# Altium footprint library Resistance.PcbLib: 5 footprints
Each footprint in its own frame and in the unit in brackets; x right, y up, seen from the top. Pads: shape width x height; smd on the part's side, far side on the other; paste and mask are expansions set on the pad; w line width, h text height; cw(c..) or ccw(c..) is an arc to the next point about the centre after c.
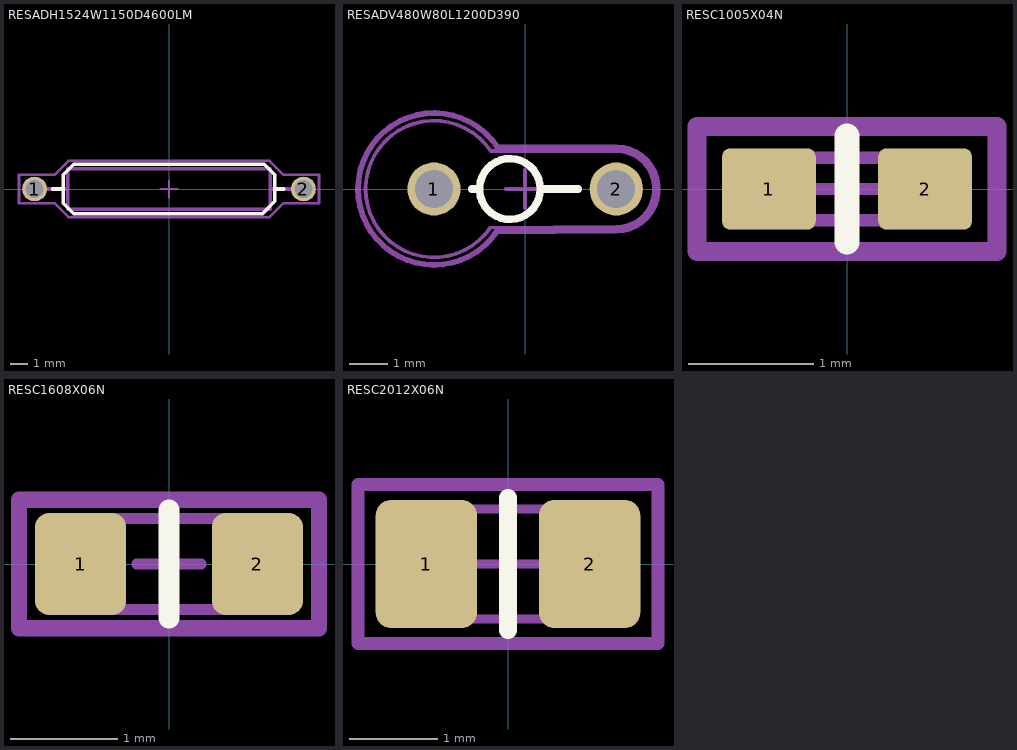
[diagram p0: the footprints below, top view; thin cyan lines are the x and y axes]

## RESADH1524W1150D4600LM [mm] "Wirebound Resistor pitch 15.24mm"
height 5.1
pads (2):
  round 1.4 hole 1: 1(-7.62,0) 2(7.62,0)
Top Overlay:
  lines w0.2: -6.6,0 -6,0 ; 6,0 6.5,0 ; -6,-0.8 -5.4,-1.4 5.3,-1.4 6,-0.7 6,0.8 5.4,1.4 -5.4,1.4 -6,0.8 -6,-0.8
Mechanical 13:
  lines w0.2: -7.6,0 -5.75,0 ; 5.77,0 7.62,0 ; -5.75,-1.15 5.75,-1.15 5.75,1.15 -5.75,1.15 -5.75,-1.15
Mechanical 15:
  lines w0.1: -0.5,0 0.5,0 ; 0,-0.5 0,0.5
  lines w0.15: -8.5,-0.8 -6.5,-0.8 -5.7,-1.6 5.7,-1.6 6.5,-0.8 8.5,-0.8 8.5,0.8 6.5,0.8 5.7,1.6 -5.7,1.6 -6.5,0.8 -8.5,0.8 -8.5,-0.8
Mechanical 17:
  text ".Designator" at -0.7,-0.3 h1
3D body "User Library-Half_watt_resistor_500spacing.step": height 4.18, standoff -5.2, extent -6.755,-1.875 6.695,1.875

## RESADV480W80L1200D390 [mm] "Wirebound Resistor pitch 4.8mm Radial tape"
height 12.5
pads (2):
  round 1.4 hole 1: 1(-2.4,0) 2(2.4,0)
Top Overlay:
  circle w0.2: c-0.4,0 r0.8
  lines w0.2: -1.4,0 -1.2,0 ; 0.4,0 1.4,0
Mechanical 13:
  lines w0.1: -0.917,-1.02 cw(c-2.4,0) -0.902,0.998 2.4,1 cw(c2.4,0) 2.4,-1 -0.917,-1.02
Mechanical 15:
  lines w0.1: -0.5,0 0.5,0 ; 0,-0.5 0,0.5
  lines w0.15: -0.752,-1.133 cw(c-2.4,0) -0.736,1.109 ; -0.752,-1.119 2.4,-1.101 ; -0.736,1.098 2.4,1.1 cw(c2.4,0) 2.4,-1.1
Mechanical 17:
  text ".Designator" at -0.7,-0.3 h1
3D body "User Library-RESAD375W80L1600D500_2W.STEP": height 20.3, standoff -3.1, extent -4.225,-2.4 2.425,2.6

## RESC1005X04N [mm] "Chip Resistor, 2-Leads, Body 1,1x0,5mm, IPC Medium Density"
height 0.4
pads (2):
  rrect20% 0.75x0.65 smd: 1(-0.625,0) 2(0.625,0)
Top Overlay:
  lines w0.2: 0,-0.425 0,0.425
Mechanical 13:
  lines w0.1: -0.5,-0.25 -0.5,0.25 0.5,0.25 0.5,-0.25 -0.5,-0.25
Mechanical 15:
  lines w0.1: -0.3,0 0.3,0 ; 0,-0.3 0,0.3
  lines w0.15: -1.2,-0.5 -1.2,0.5 1.2,0.5 1.2,-0.5 -1.2,-0.5
Mechanical 17:
  text ".Designator" at -0.425,-0.15 h0.5
3D body "User Library-RESC1005X04N.STEP": height 0.35, standoff 0, extent -0.5,-0.25 0.5,0.25

## RESC1608X06N [mm] "Chip Resistor, 2-Leads, Body 1,6x0,8mm, IPC Medium Density"
height 0.6
pads (2):
  rrect30% 0.85x0.95 smd: 1(-0.825,0) 2(0.825,0)
Top Overlay:
  lines w0.2: 0,-0.5 0,0.5
Mechanical 13:
  lines w0.1: -0.775,-0.425 0.775,-0.425 0.775,0.425 -0.775,0.425 -0.775,-0.425
Mechanical 15:
  lines w0.1: -0.3,0 0.3,0 ; 0,-0.3 0,0.3
  lines w0.15: -1.4,-0.6 1.4,-0.6 1.4,0.6 -1.4,0.6 -1.4,-0.6
Mechanical 17:
  text ".Designator" at -0.7,-0.3 h1
3D body "User Library-RESC1608X05N.STEP": height 0.45, standoff 0, extent -0.775,-0.425 0.775,0.425

## RESC2012X06N [mm] "Chip Resistor, 2-Leads, Body 2,0x1,3mm, IPC Medium Density"
height 0.65
pads (2):
  rrect30% 1.15x1.45 smd: 1(-0.925,0) 2(0.925,0)
Top Overlay:
  lines w0.2: 0,-0.75 0,0.75
Mechanical 13:
  lines w0.1: -1,-0.625 1.016,-0.625 1.016,0.625 -1,0.625 -1,-0.625
Mechanical 15:
  lines w0.1: -0.5,0 0.5,0 ; 0,-0.5 0,0.5
  lines w0.15: -1.7,-0.9 1.7,-0.9 1.7,0.9 -1.7,0.9 -1.7,-0.9
Mechanical 17:
  text ".Designator" at -0.875,-0.45 h1.5
3D body "User Library-RESC2012X05N.STEP": height 0.45, standoff 0, extent -1,-0.625 1,0.625